# EAGLE library part PCA9557D (library PCA9557)
IC, IO PORT, I2C/SMBUS, 8BIT, 16SOIC
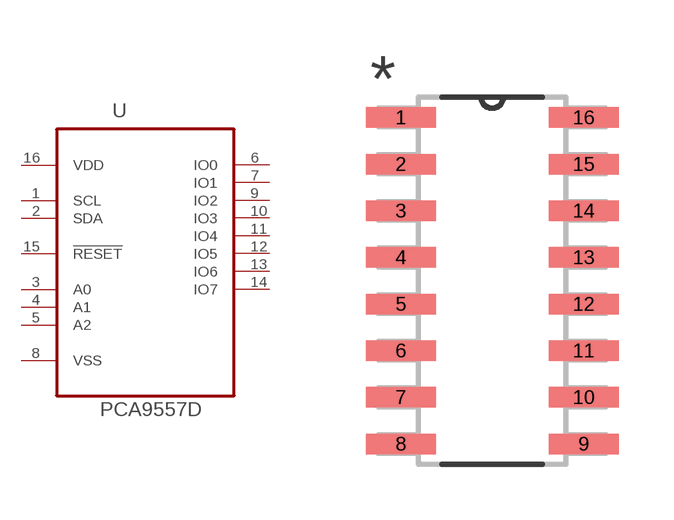
[diagram p0: symbol with the pads of SOIC127P600X175-16N; footprint SOIC127P600X175-16N]

Designator prefix U

## PCA9557D (MPN: PCA9557D; OC_FARNELL: 2212102; OC_NEWARK: 55W4327; PACKAGE: SO-16; SUPPLIER: NXP)  [SOIC127P600X175-16N]
1  SCL  in
2  SDA
3  A0  in
4  A1  in
5  A2  in
6  IO0
7  IO1
8  VSS  pas
9  IO2
10  IO3
11  IO4
12  IO5
13  IO6
14  IO7
15  !RESET  in
16  VDD  pwr

## Footprint SOIC127P600X175-16N (pad centres in mm)
smd 1.905 x 0.559: 1 -2.489,4.445; 2 -2.489,3.175; 3 -2.489,1.905; 4 -2.489,0.635; 5 -2.489,-0.635; 6 -2.489,-1.905; 7 -2.489,-3.175; 8 -2.489,-4.445; 9 2.489,-4.445; 10 2.489,-3.175; 11 2.489,-1.905; 12 2.489,-0.635; 13 2.489,0.635; 14 2.489,1.905; 15 2.489,3.175; 16 2.489,4.445